# Altium schematic symbol library NUCLEO-F401RE.SchLib: 1 symbol
Pins are listed as number, name and electrical type; pins without a type are passive.

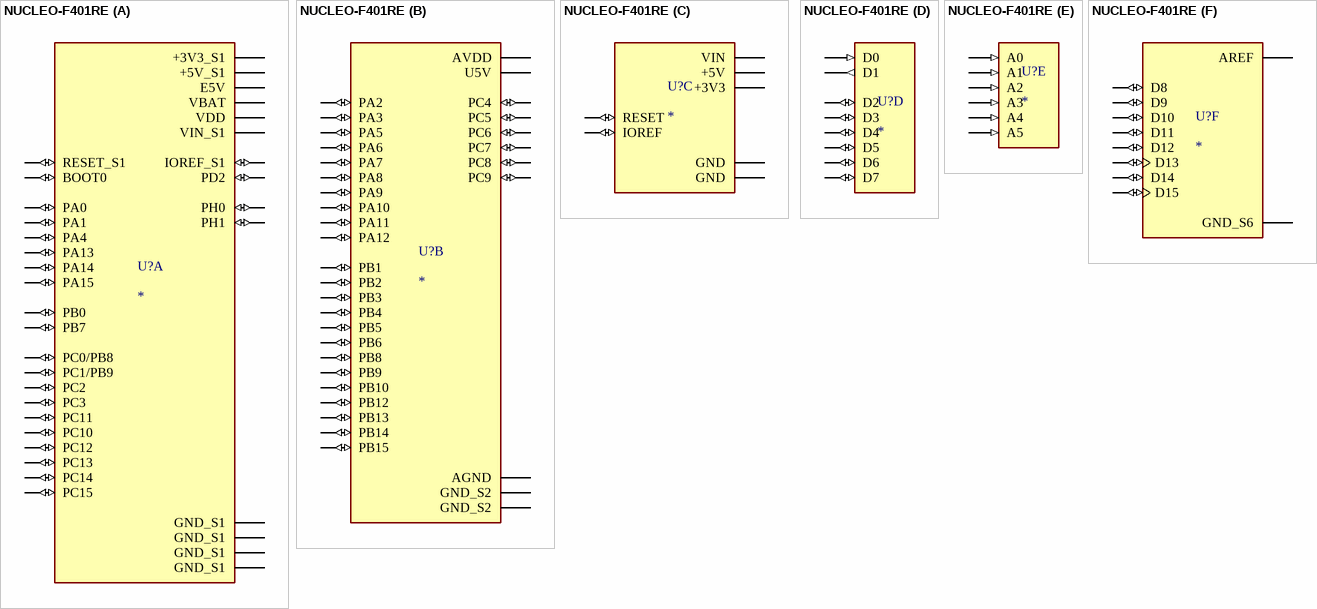
[diagram p0: symbol NUCLEO-F401RE]

## NUCLEO-F401RE
designator U?
STM32 Nucleo-64 development board with STM32F401RET6 MCU, supports Arduino and ST morpho connectivity; MP: NUCLEO-F401RE; Availability: Unavailable; Price: None; Package: None; Value: *
footprint ST_NUCLEO-F401RE
part A pins: CN7_1 PC10 (io), CN7_2 PC11 (io), CN7_3 PC12 (io), CN7_4 PD2 (io), CN7_5 VDD (power), CN7_6 E5V (power), CN7_7 BOOT0 (io), CN7_8 GND_S1 (power), CN7_12 IOREF_S1 (io), CN7_13 PA13 (io), CN7_14 RESET_S1 (io), CN7_15 PA14 (io), CN7_16 +3V3_S1 (power), CN7_17 PA15 (io), CN7_18 +5V_S1 (power), CN7_19 GND_S1 (power), CN7_20 GND_S1 (power), CN7_21 PB7 (io), CN7_22 GND_S1 (power), CN7_23 PC13 (io), CN7_24 VIN_S1 (power), CN7_25 PC14 (io), CN7_27 PC15 (io), CN7_28 PA0 (io), CN7_29 PH0 (io), CN7_30 PA1 (io), CN7_31 PH1 (io), CN7_32 PA4 (io), CN7_33 VBAT (power), CN7_34 PB0 (io), CN7_35 PC2 (io), CN7_36 PC1/PB9 (io), CN7_37 PC3 (io), CN7_38 PC0/PB8 (io)
part B pins: CN10_1 PC9 (io), CN10_2 PC8 (io), CN10_3 PB8 (io), CN10_4 PC6 (io), CN10_5 PB9 (io), CN10_6 PC5 (io), CN10_7 AVDD (power), CN10_8 U5V (power), CN10_9 GND_S2 (power), CN10_11 PA5 (io), CN10_12 PA12 (io), CN10_13 PA6 (io), CN10_14 PA11 (io), CN10_15 PA7 (io), CN10_16 PB12 (io), CN10_17 PB6 (io), CN10_19 PC7 (io), CN10_20 GND_S2 (power), CN10_21 PA9 (io), CN10_22 PB2 (io), CN10_23 PA8 (io), CN10_24 PB1 (io), CN10_25 PB10 (io), CN10_26 PB15 (io), CN10_27 PB4 (io), CN10_28 PB14 (io), CN10_29 PB5 (io), CN10_30 PB13 (io), CN10_31 PB3 (io), CN10_32 AGND (power), CN10_33 PA10 (io), CN10_34 PC4 (io), CN10_35 PA2 (io), CN10_37 PA3 (io)
part C pins: CN6_2 IOREF (io), CN6_3 RESET (io), CN6_4 +3V3 (power), CN6_5 +5V (power), CN6_6 GND (power), CN6_7 GND (power), CN6_8 VIN (power)
part D pins: CN9_1 D0 (in), CN9_2 D1 (out), CN9_3 D2 (io), CN9_4 D3 (io), CN9_5 D4 (io), CN9_6 D5 (io), CN9_7 D6 (io), CN9_8 D7 (io)
part E pins: CN8_1 A0 (in), CN8_2 A1 (in), CN8_3 A2 (in), CN8_4 A3 (in), CN8_5 A4 (in), CN8_6 A5 (in)
part F pins: CN5_1 D8 (io), CN5_2 D9 (io), CN5_3 D10 (io), CN5_4 D11 (io), CN5_5 D12 (io), CN5_6 D13 (io), CN5_7 GND_S6 (power), CN5_8 AREF (power), CN5_9 D14 (io), CN5_10 D15 (io)